# Altium footprint library sn74lvc1g08.PcbLib: 3 footprints
Each footprint in its own frame and in the unit in brackets; x right, y up, seen from the top. Pads: shape width x height; smd on the part's side, far side on the other; paste and mask are expansions set on the pad; w line width, h text height; cw(c..) or ccw(c..) is an arc to the next point about the centre after c.
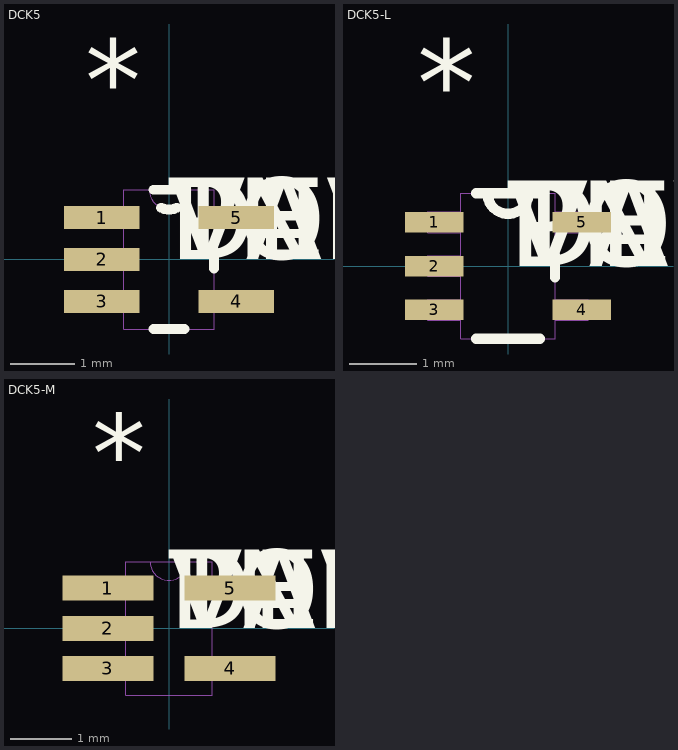
[diagram p0: the footprints below, top view; thin cyan lines are the x and y axes]

## DCK5 [mil]
pads (5):
  rect 46x14 smd: 1(-41,25.59) 2(-41,0) 3(-41,-25.59) 4(41,-25.59) 5(41,25.59)
Top Overlay:
  lines w6: -9.43,-42.5 9.43,-42.5 ; -9.43,42.5 9.43,42.5 ; -4.9,31.55 ccw(c0,42.5) 4.9,31.55 ; 27.5,-5.49 27.5,5.49
  text "*" at -51,84.59 h50
  text "PN" at 0,0 h50
  text "DEV" at 0,0 h50
  text "VAL" at 0,0 h50
  text "TOL" at 0,0 h50
Mechanical 1:
  lines w0: -12,42.5 ccw(c0,42.5) 12,42.5 ; -47,-31.59 -47,-19.59 -27.5,-19.59 -27.5,-31.59 -47,-31.59 ; -47,-6 -47,6 -27.5,6 -27.5,-6 -47,-6 ; -47,19.59 -47,31.59 -27.5,31.59 -27.5,19.59 -47,19.59 ; -27.5,-42.5 27.5,-42.5 27.5,42.5 -27.5,42.5 -27.5,-42.5 ; 27.5,-31.59 27.5,-19.59 47,-19.59 47,-31.59 27.5,-31.59 ; 27.5,19.59 27.5,31.59 47,31.59 47,19.59 27.5,19.59
  text "*" at -51,84.59 h50
  text "RefDes2" at 0,0 h50
3D body: height 37.64, standoff 0.23, extent -44.88,-39.38 44.88,39.36

## DCK5-L [mil]
pads (5):
  rect 34x12 smd: 1(-43,25.59) 2(-43,0) 3(-43,-25.59) 4(43,-25.59) 5(43,25.59)
Top Overlay:
  lines w6: -18.75,-42.5 18.75,-42.5 ; -18.75,42.5 18.75,42.5 ; -12,42.5 ccw(c0,42.5) 12,42.5 ; 27.5,-6.49 27.5,6.49
  text "TOL" at 0,0 h50
  text "VAL" at 0,0 h50
  text "DEV" at 0,0 h50
  text "PN" at 0,0 h50
  text "*" at -53,82.59 h50
Mechanical 1:
  lines w0: -12,42.5 ccw(c0,42.5) 12,42.5 ; -47,-31.59 -27.5,-31.59 -27.5,-19.59 -47,-19.59 -47,-31.59 ; -47,-6 -27.5,-6 -27.5,6 -47,6 -47,-6 ; -47,19.59 -27.5,19.59 -27.5,31.59 -47,31.59 -47,19.59 ; -27.5,-42.5 -27.5,42.5 27.5,42.5 27.5,-42.5 -27.5,-42.5 ; 27.5,-31.59 47,-31.59 47,-19.59 27.5,-19.59 27.5,-31.59 ; 27.5,19.59 47,19.59 47,31.59 27.5,31.59 27.5,19.59
  text "RefDes2" at 0,0 h50
  text "*" at -53,82.59 h50

## DCK5-M [mil]
pads (5):
  rect 58x16 smd: 1(-39,25.59) 2(-39,0) 3(-39,-25.59) 4(39,-25.59) 5(39,25.59)
Top Overlay:
  text "TOL" at 0,0 h50
  text "VAL" at 0,0 h50
  text "DEV" at 0,0 h50
  text "PN" at 0,0 h50
  text "*" at -49,86.59 h50
Mechanical 1:
  lines w0: -12,42.5 ccw(c0,42.5) 12,42.5 ; -47,-31.59 -27.5,-31.59 -27.5,-19.59 -47,-19.59 -47,-31.59 ; -47,-6 -27.5,-6 -27.5,6 -47,6 -47,-6 ; -47,19.59 -27.5,19.59 -27.5,31.59 -47,31.59 -47,19.59 ; -27.5,-42.5 -27.5,42.5 27.5,42.5 27.5,-42.5 -27.5,-42.5 ; 27.5,-31.59 47,-31.59 47,-19.59 27.5,-19.59 27.5,-31.59 ; 27.5,19.59 47,19.59 47,31.59 27.5,31.59 27.5,19.59
  text "RefDes2" at 0,0 h50
  text "*" at -49,86.59 h50